# Altium schematic symbol library MCS04020D4702BE000.SchLib: 1 symbol
Pins are listed as number, name and electrical type; pins without a type are passive.

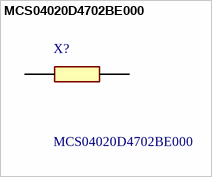
[diagram p0: symbol MCS04020D4702BE000]

## MCS04020D4702BE000
designator X?
Vishay Resistor Chip 0402; Geometry.Height: 0.37mm; Mouser Part Number: 594-MCS04020D4702BE0; Mouser Price/Stock: https://www.mouser.co.uk/ProductDetail/Vishay-Beyschlag/MCS04020D4702BE000?qs=17u8i%2FzlE88xzy3%2F9vIqDA%3D%3D; Manufacturer_Name: Vishay; Manufacturer_Part_Number: MCS04020D4702BE000; Datasheet Link: http://www.vishay.com/docs/28705/mcx0x0xpro.pdf
footprint RESC1005X37N
pins: 1, 2